# EAGLE library part SI1539CDL-2 (library OrlandoRonMod)
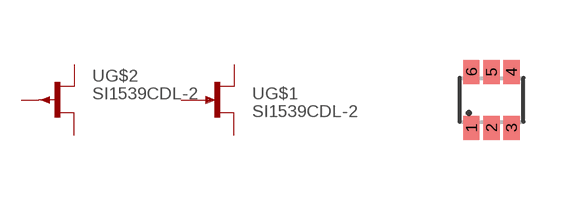
[diagram p7: symbol with the pads of SOT563; footprint SOT563]

Designator prefix -; gates G$1=JFETN-1 G$2=JFETP

## SI1539CDL-2  [SOT563]
1  G$1:S  pas
2  G$1:G  pas
3  G$2:D  pas
4  G$2:S  pas
5  G$2:G  pas
6  G$1:D  pas

## Footprint SOT563 (pad centres in mm)
SOT-563 Source: www.centralsemi.com ..SOT-563PD.pdf
smd 0.4 x 0.6: 1 -0.5,-0.7; 2 0,-0.7; 3 0.5,-0.7; 4 0.5,0.7; 5 0,0.7; 6 -0.5,0.7